# Altium footprint library 控制模块.PcbLib: 25 footprints (part 1 of 2)
Each footprint in its own frame and in the unit in brackets; x right, y up, seen from the top. Pads: shape width x height; smd on the part's side, far side on the other; paste and mask are expansions set on the pad; w line width, h text height; cw(c..) or ccw(c..) is an arc to the next point about the centre after c.
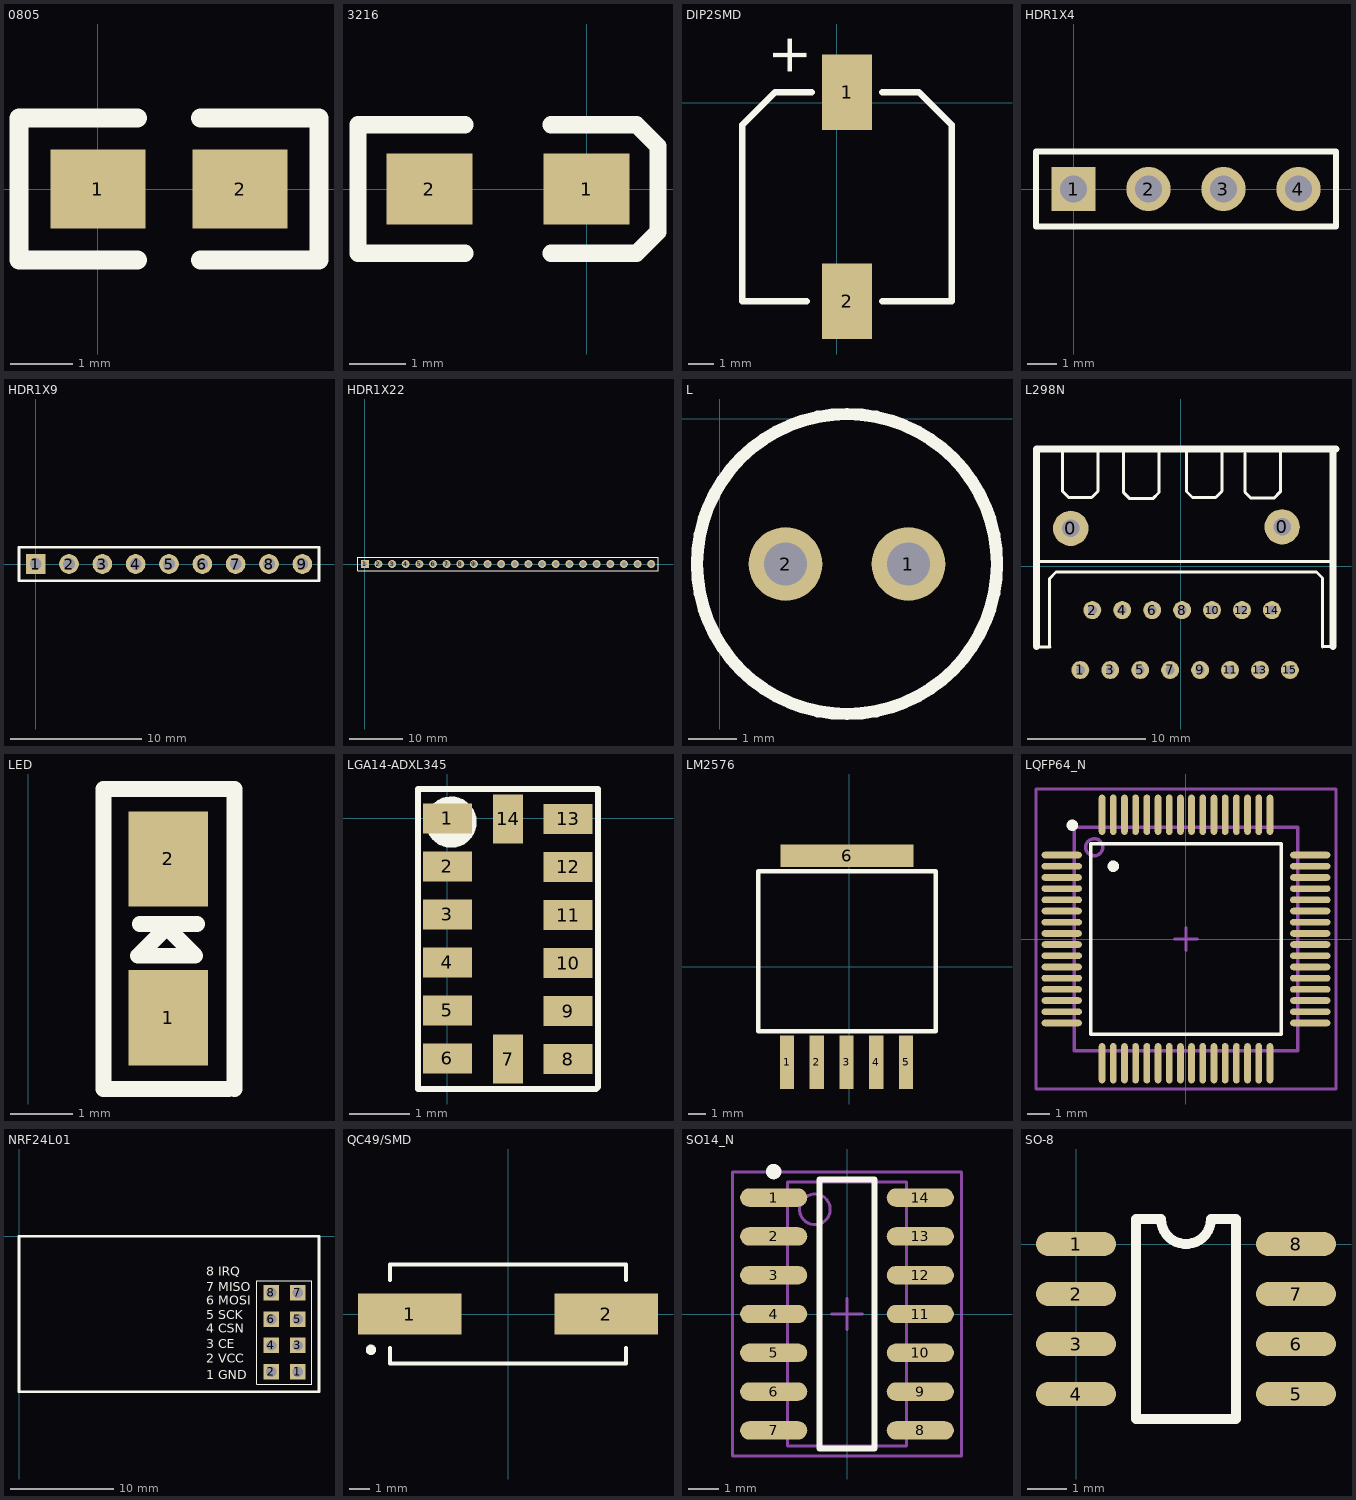
[diagram p0: the footprints below, top view; thin cyan lines are the x and y axes]

## 0805 [mil]
pads (2):
  rect 60x50 smd: 1(0,0) 2(90,0)
Top Overlay:
  lines w12: 25,-45 -50,-45 -50,45 25,45 ; 65,-45 140,-45 140,45 65,45

## 3216 [mil]
pads (2):
  rect 60x50 smd: 1(0,0) 2(-110,0)
Top Overlay:
  lines w12: -85,-45 -160,-45 -160,45 -85,45 ; -25,-45 35,-45 50,-30 50,30 35,45 -25,45

## DIP2SMD [mm]
pads (2):
  rect 2x3 smd: 1(0.405,0.417) 2(0.405,-7.883)
Top Overlay:
  lines w0.254: -1.2,-7.883 -3.745,-7.883 -3.745,-0.883 -2.445,0.417 -1,0.417 ; 1.8,-7.883 4.555,-7.883 4.555,-0.883 3.255,0.417 1.8,0.417
  text "+" at -1.2,1 h1.52

## HDR1X4 [mm] "Connector; Header; 4 Position"
pads (4):
  rect 1.5x1.5 hole 0.9: 1(0,0)
  round 1.5 hole 0.9: 2(2.54,0) 3(5.08,0) 4(7.62,0)
Top Overlay:
  lines w0.2: -1.27,-1.27 8.89,-1.27 8.89,1.27 -1.27,1.27 -1.27,-1.27

## HDR1X9 [mm] "Connector; Header; 9 Position"
pads (9):
  rect 1.5x1.5 hole 0.9: 1(0,0)
  round 1.5 hole 0.9: 2(2.54,0) 3(5.08,0) 4(7.62,0) 5(10.16,0) 6(12.7,0) 7(15.24,0) 8(17.78,0) 9(20.32,0)
Top Overlay:
  lines w0.2: -1.27,-1.27 21.59,-1.27 21.59,1.27 -1.27,1.27 -1.27,-1.27

## HDR1X22 [mm] "Connector; Header; 22 Position"
pads (22):
  rect 1.5x1.5 hole 0.9: 1(0,0)
  round 1.5 hole 0.9: 2(2.54,0) 3(5.08,0) 4(7.62,0) 5(10.16,0) 6(12.7,0) 7(15.24,0) 8(17.78,0) 9(20.32,0) 10(22.86,0) 11(25.4,0) 12(27.94,0) 13(30.48,0) 14(33.02,0) 15(35.56,0) 16(38.1,0) 17(40.64,0) 18(43.18,0) 19(45.72,0) 20(48.26,0) 21(50.8,0) 22(53.34,0)
Top Overlay:
  lines w0.2: -1.27,-1.27 54.61,-1.27 54.61,1.27 0.635,1.27 -1.27,1.27 -1.27,-1.27

## L [mil]
pads (2):
  round 60 hole 35: 1(153.54,-118.34) 2(53.54,-118.34)
Top Overlay:
  circle w10: c103.54,-118.34 r122.05

## L298N [mil]
pads (17):
  round 118.11 hole 59.06: 0(-368,126) 0(338,131)
  round 60 hole 30: 1(-336,-347) 2(-296,-147) 3(-236,-347) 4(-196,-147) 5(-136,-347) 6(-96,-147) 7(-36,-347) 8(4,-147) 9(64,-347) 10(104,-147) 11(164,-347) 12(204,-147) 13(264,-347) 14(304,-147) 15(364,-347)
Top Overlay:
  lines w10: -484,-270 -437,-270 -439,-268 -439,-42 -417,-20 453,-20 473,-40 473,-270 475,-268 512,-268 ; -470,15 510,15 ; -395,378 -395,249 -375,229 -298,229 -277,250 -277,390 ; -191,259 -191,378 ; -191,374 -191,245 -171,225 -94,225 -73,246 -73,386 ; 19,378 19,249 39,229 116,229 137,250 137,390 ; 214,376 214,247 234,227 311,227 332,248 332,388
  lines w23.62: -482,-269 -482,391 518,391 ; 508,-269 508,391

## LED [mil]
pads (2):
  rect 50x60 smd: 1(88.14,-175.52) 2(88.14,-75.52)
Top Overlay:
  lines w10: 70.14,-116.52 106.14,-116.52 ; 125.98,-220.47 47.24,-220.47 47.24,-31.5 129.92,-31.5 129.92,-220.47 ; 69.14,-136.52 87.14,-118.52 105.14,-136.52 69.14,-136.52

## LGA14-ADXL345 [mm] "LCC, 14-Pins, Body 3.0x5.0mm (max), Pitch 0.80mm, IPC Medium Density"
height 0.95
pads (14):
  rect 0.813x0.5 smd: 1(0,0) 2(0,-0.8) 3(0,-1.6) 4(0,-2.4) 5(0,-3.2) 6(0,-4) 8(2.01,-4.01) 9(2.01,-3.21) 10(2.01,-2.41) 11(2.01,-1.61) 12(2.01,-0.81) 13(2.01,-0.01)
  rect 0.5x0.813 smd: 7(1.01,-4.01) 14(1.01,-0.01)
Top Overlay:
  lines w0.1: -0.49,-4.51 2.478,-4.51 2.51,-4.478 2.51,0.49 -0.49,0.49 -0.49,-4.51
  lines w0.254: 0.356,0 ccw(c0.062,-0.062) 0.362,-0.062

## LM2576 [mil]
pads (6):
  rect 32x120 smd: 1(-140,-215) 2(-73,-215) 3(-6,-215) 4(61,-215) 5(128,-215)
  rect 300x50 smd: 6(-5,250)
Top Overlay:
  lines w10: -205,-145 195,-145 195,215 -205,215 -205,-145

## LQFP64_N [mm] "Thin QFP, 64-Leads, Body 10x10mm, Pitch 0.5mm, IPC Medium Density"
height 1.6
pads (64):
  oval 1.8x0.3 smd: 1(-5.55,3.75) 2(-5.55,3.25) 3(-5.55,2.75) 4(-5.55,2.25) 5(-5.55,1.75) 6(-5.55,1.25) 7(-5.55,0.75) 8(-5.55,0.25) 9(-5.55,-0.25) 10(-5.55,-0.75) 11(-5.55,-1.25) 12(-5.55,-1.75) 13(-5.55,-2.25) 14(-5.55,-2.75) 15(-5.55,-3.25) 16(-5.55,-3.75) 33(5.55,-3.75) 34(5.55,-3.25) 35(5.55,-2.75) 36(5.55,-2.25) 37(5.55,-1.75) 38(5.55,-1.25) 39(5.55,-0.75) 40(5.55,-0.25) 41(5.55,0.25) 42(5.55,0.75) 43(5.55,1.25) 44(5.55,1.75) 45(5.55,2.25) 46(5.55,2.75) 47(5.55,3.25) 48(5.55,3.75)
  oval 0.3x1.8 smd: 17(-3.75,-5.55) 18(-3.25,-5.55) 19(-2.75,-5.55) 20(-2.25,-5.55) 21(-1.75,-5.55) 22(-1.25,-5.55) 23(-0.75,-5.55) 24(-0.25,-5.55) 25(0.25,-5.55) 26(0.75,-5.55) 27(1.25,-5.55) 28(1.75,-5.55) 29(2.25,-5.55) 30(2.75,-5.55) 31(3.25,-5.55) 32(3.75,-5.55) 49(3.75,5.55) 50(3.25,5.55) 51(2.75,5.55) 52(2.25,5.55) 53(1.75,5.55) 54(1.25,5.55) 55(0.75,5.55) 56(0.25,5.55) 57(-0.25,5.55) 58(-0.75,5.55) 59(-1.25,5.55) 60(-1.75,5.55) 61(-2.25,5.55) 62(-2.75,5.55) 63(-3.25,5.55) 64(-3.75,5.55)
Top Overlay:
  circle w0.254: c-5.08,5.08 r0.127
  circle w0.254: c-3.25,3.25 r0.127
  lines w0.152: -4.25,-4.25 -4.25,4.25 4.25,4.25 4.25,-4.25 -4.25,-4.25
Mechanical 13:
  circle w0.152: c-4.1,4.1 r0.381
  lines w0.152: -5,-5 -5,5 5,5 5,-5 -5,-5
Mechanical 15:
  lines w0.152: -0.5,0 0.5,0 ; 0,-0.5 0,0.5 ; -6.7,-6.7 -6.7,6.7 6.7,6.7 6.7,-6.7 -6.7,-6.7
3D body: height 1.6, standoff 0, extent -5,-5 5,5

## NRF24L01 [mm]
pads (8):
  rect 1.5x1.5 hole 1: 1(26.94,-13.08) 2(24.4,-13.08) 3(26.94,-10.54) 4(24.4,-10.54) 5(26.94,-8) 6(24.4,-8) 7(26.94,-5.46) 8(24.4,-5.46)
Top Overlay:
  lines w0.1: 23,-14.28 28.3,-14.28 28.3,-4.28 23,-4.28 23,-14.28
  lines w0.254: 0,-15 0,0 29,0 29,-15 0,-15
  text "8 IRQ" at 18.1,-4.1 h1.52
  text "7 MISO" at 18.1,-5.6 h1.52
  text "6 MOSI" at 18.1,-6.9 h1.52
  text "5 SCK" at 18.1,-8.3 h1.52
  text "4 CSN" at 18.1,-9.6 h1.52
  text "3 CE" at 18.1,-11.1 h1.52
  text "2 VCC" at 18.099,-12.5 h1.52
  text "1 GND" at 18.1,-14.1 h1.52

## QC49/SMD [mm] "Surface Mount 20MHz Crystal, 12.9mm x 4.8mm (LxW)"
pads (2):
  rect 5x2 smd: 1(-4.75,0) 2(4.75,0)
Top Overlay:
  circle w0.25: c-6.625,-1.73 r0.125
  lines w0.2: -5.7,-1.65 -5.7,-2.4 5.7,-2.4 5.7,-1.65 ; -5.7,1.65 -5.7,2.4 5.7,2.4 5.7,1.65

## SO14_N [mm] "SOIC, 14-Leads, Body 8.7x3.9mm, Pitch 1.27mm, IPC Medium Density"
height 1.75
pads (14):
  oval 2.2x0.6 smd: 1(-2.4,3.81) 2(-2.4,2.54) 3(-2.4,1.27) 4(-2.4,0) 5(-2.4,-1.27) 6(-2.4,-2.54) 7(-2.4,-3.81) 8(2.4,-3.81) 9(2.4,-2.54) 10(2.4,-1.27) 11(2.4,0) 12(2.4,1.27) 13(2.4,2.54) 14(2.4,3.81)
Top Overlay:
  circle w0.25: c-2.4,4.66 r0.125
  lines w0.2: -0.9,-4.4 0.9,-4.4 0.9,4.4 -0.9,4.4 -0.9,-4.4
Mechanical 13:
  circle w0.1: c-1.05,3.425 r0.5
  lines w0.1: -1.95,-4.325 1.95,-4.325 1.95,4.325 -1.95,4.325 -1.95,-4.325
Mechanical 15:
  lines w0.1: -0.5,0 0.5,0 ; 0,-0.5 0,0.5 ; -3.75,-4.65 3.75,-4.65 3.75,4.65 -3.75,4.65 -3.75,-4.65
3D body: height 1.75, standoff 0, extent -1.95,-4.325 1.95,4.325

## SO-8 [mil]
pads (8):
  oval 80x24 smd: 1(0,0) 2(0,-50) 3(0,-100) 4(0,-150) 5(220,-150) 6(220,-100) 7(220,-50) 8(220,0)
Top Overlay:
  lines w10: 60,-175 60,25 85,25 ccw(c110,25) 135,25 160,25 160,-175 60,-175